# Altium schematic symbol library AC_DC.SchLib: 1 symbol
Pins are listed as number, name and electrical type; pins without a type are passive.

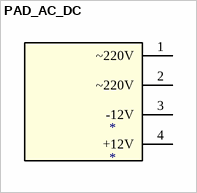
[diagram p0: symbol PAD_AC_DC]

## PAD_AC_DC
designator *
footprint AC_DC PAD
pins: 1 ~220V, 2 ~220V, 3 -12V, 4 +12V